# Altium footprint library Powers.PcbLib: 24 footprints (part 2 of 2)
Each footprint in its own frame and in the unit in brackets; x right, y up, seen from the top. Pads: shape width x height; smd on the part's side, far side on the other; paste and mask are expansions set on the pad; w line width, h text height; cw(c..) or ccw(c..) is an arc to the next point about the centre after c.
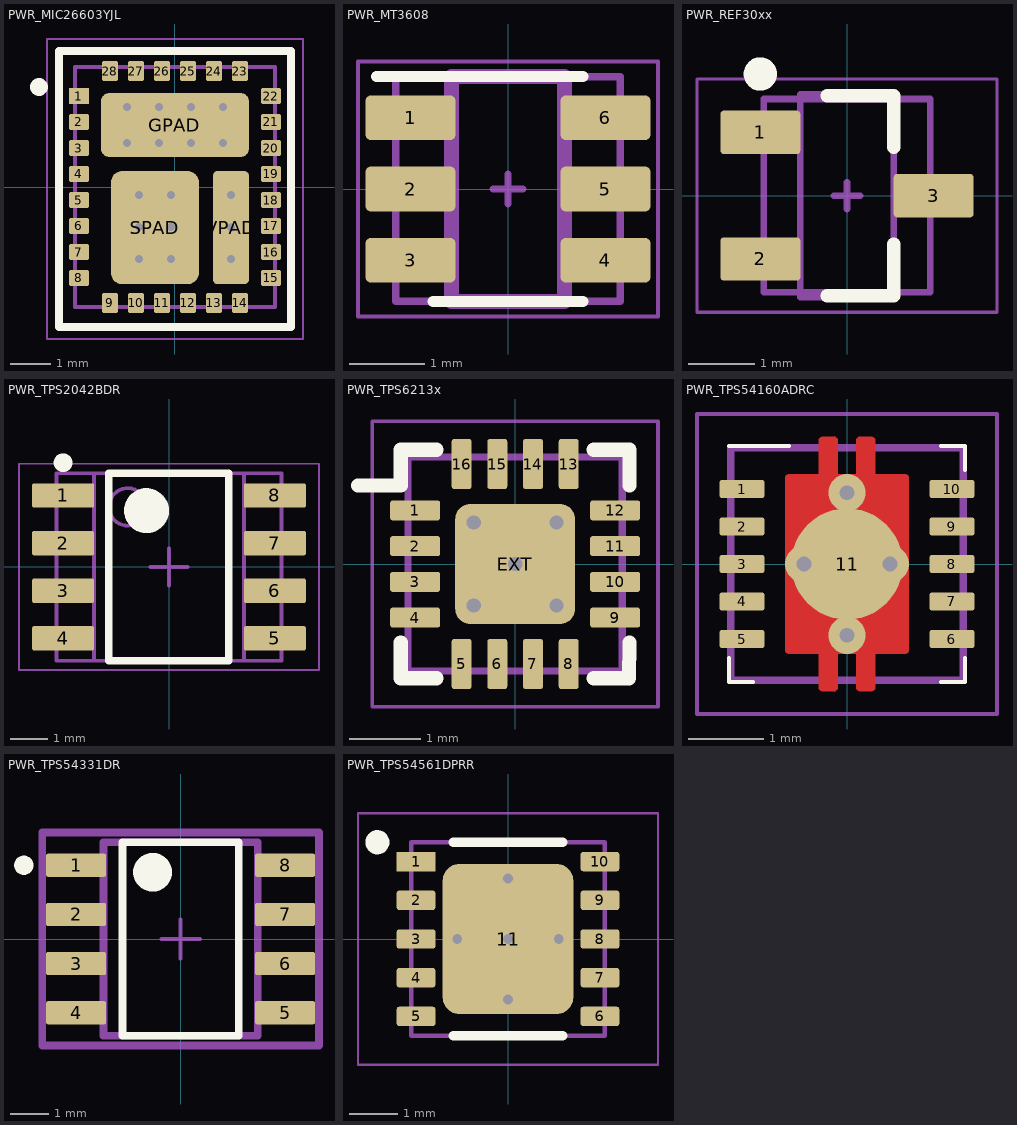
[diagram p1: the footprints below, top view; thin cyan lines are the x and y axes]

## PWR_MIC26603YJL [mm]
pads (31):
  rect 0.5x0.4 smd mask+0.07: 1(-2.4,2.275)
  rrect25% 0.5x0.4 smd mask+0.07: 2(-2.4,1.625) 3(-2.4,0.975) 4(-2.4,0.325) 5(-2.4,-0.325) 6(-2.4,-0.975) 7(-2.4,-1.625) 8(-2.4,-2.275) 15(2.4,-2.275) 16(2.4,-1.625) 17(2.4,-0.975) 18(2.4,-0.325) 19(2.4,0.325) 20(2.4,0.975) 21(2.4,1.625) 22(2.4,2.275)
  rrect25% 0.4x0.5 smd mask+0.07: 9(-1.625,-2.9) 10(-0.975,-2.9) 11(-0.325,-2.9) 12(0.325,-2.9) 13(0.975,-2.9) 14(1.625,-2.9) 23(1.625,2.9) 24(0.975,2.9) 25(0.325,2.9) 26(-0.325,2.9) 27(-0.975,2.9) 28(-1.625,2.9)
  rrect25% 3.7x1.6 smd mask+0.07: GPAD(0,1.55)
  rrect25% 2.2x2.83 smd mask+0.07: SPAD(-0.5,-1.015)
  rrect25% 0.9x2.83 smd mask+0.07: VPAD(1.4,-1.015)
via 1.4,-1.8 diameter 0.5 hole 0.2
via 1.4,-1.015 diameter 0.5 hole 0.2
via 1.4,-0.2 diameter 0.5 hole 0.2
via -0.1,-1 diameter 0.5 hole 0.2
via -0.9,-1 diameter 0.5 hole 0.2
via -0.1,-0.2 diameter 0.5 hole 0.2
via -0.9,-0.2 diameter 0.5 hole 0.2
via -0.9,-1.8 diameter 0.5 hole 0.2
via -0.1,-1.8 diameter 0.5 hole 0.2
via 0.4,2 diameter 0.5 hole 0.2
via 0.4,1.1 diameter 0.5 hole 0.2
via 1.2,1.1 diameter 0.5 hole 0.2
via 1.2,2 diameter 0.5 hole 0.2
via -0.4,2 diameter 0.5 hole 0.2
via -0.4,1.1 diameter 0.5 hole 0.2
via -1.2,1.1 diameter 0.5 hole 0.2
via -1.2,2 diameter 0.5 hole 0.2
Top Overlay:
  circle w0.25: c-3.4,2.5 r0.098
  lines w0.2: -2.9,-3.5 -2.9,3.4 2.9,3.4 2.9,-3.5 1.45,-3.5 -1.45,-3.5 -2.9,-3.5
Top Component Center:
  lines w0.1: -0.2,0 0,0 ; 0,-0.2 0,0 ; 0,0.2 0,0 ; 0.2,0 0,0
Top Assembly:
  lines w0.1: -2.5,-3 2.5,-3 2.5,3 -2.5,3 -2.5,-3
Top Designator:
  text ".Designator" at -7.816,-0.558 h1.52
Top Courtyard:
  lines w0.05: -3.2,-3.8 3.2,-3.8 3.2,3.7 -3.2,3.7 -3.2,-3.8
3D body "MIC26603YJL-TR.stp": height 1, standoff 0, extent -2.5,-3 2.5,3

## PWR_MT3608 [mm]
pads (6):
  rrect25% 1.2x0.6 smd paste+0 mask+0.051: 1(-1.3,0.95) 2(-1.3,0) 3(-1.3,-0.95) 4(1.3,-0.95) 5(1.3,0) 6(1.3,0.95)
Top Overlay:
  lines w0.152: -1.75,1.5 1,1.5 ; -1,-1.5 1,-1.5
Top Component Center:
  lines w0.1: -0.2,0 0,0 ; 0,-0.2 0,0 ; 0,0.2 0,0 ; 0.2,0 0,0
Top Assembly:
  lines w0.1: -1.5,-1.5 1.5,-1.5 1.5,1.5 -1.5,1.5 -1.5,-1.5
Top Designator:
  text ".Designator" at -7.618,-0.508 h1.52
Top 3D Body:
  lines w0.2: -0.75,-1.5 -0.75,1.5 0.75,1.5 0.75,-1.5 -0.75,-1.5
Top Courtyard:
  lines w0.05: -2,-1.7 -2,1.7 2,1.7 2,-1.7 -2,-1.7
3D body "TSOT23-6SOT23-6_AER.step": height 1.45, standoff 0, extent -1.499,-1.499 1.499,1.499

## PWR_REF30xx [mm] "SOT23, 3-Leads, Body 3.04x1.4mm, Pitch 0.95mm, IPC Low Density"
height 1.12
pads (3):
  rrect15% 1.2x0.65 smd: 1(-1.3,0.95) 2(-1.3,-0.95) 3(1.3,0)
Top Overlay:
  circle w0.25: c-1.3,1.825 r0.125
  lines w0.2: -0.3,-1.5 0.7,-1.5 0.7,-0.725 ; -0.3,1.5 0.7,1.5 0.7,0.725
Top Component Center:
  lines w0.1: -0.2,0 0,0 ; 0,-0.2 0,0 ; 0,0.2 0,0 ; 0.2,0 0,0
Top Assembly:
  lines w0.1: -1.25,-1.45 -1.25,1.45 1.25,1.45 1.25,-1.45 -1.25,-1.45
Top Designator:
  text ".Designator" at -7.618,-0.358 h1.52
Top 3D Body:
  lines w0.1: -0.7,-1.52 0.7,-1.52 0.7,1.52 -0.7,1.52 -0.7,-1.52
Top Courtyard:
  lines w0.05: -2.25,-1.75 2.25,-1.75 2.25,1.75 -2.25,1.75 -2.25,-1.75
3D body "DBZ0003AakaMF03A.stp": height 0.96, standoff -0.02, extent -1.257,-1.461 1.257,1.46

## PWR_TPS2042BDR [mm]
height 1.75
pads (8):
  rrect15% 1.65x0.65 smd: 1(-2.825,1.905) 2(-2.825,0.635) 3(-2.825,-0.635) 4(-2.825,-1.905) 5(2.825,-1.905) 6(2.825,-0.635) 7(2.825,0.635) 8(2.825,1.905)
Top Overlay:
  circle w0.25: c-2.825,2.78 r0.125
  circle w0.6: c-0.6,1.5 r0.3
  lines w0.2: -1.6,-2.5 -1.6,2.5 1.6,2.5 1.6,-2.5 -1.6,-2.5
Top Component Center:
  lines w0.1: -0.5,0 0.5,0 ; 0,-0.5 0,0.5
Top Assembly:
  lines w0.1: -3,-2.5 3,-2.5 3,2.5 -3,2.5 -3,-2.5
Top Designator:
  text ".Designator" at -7.618,-0.38 h1.52
Top 3D Body:
  circle w0.1: c-1.1,1.6 r0.5
  lines w0.1: -2,-2.5 -2,2.5 2,2.5 2,-2.5 -2,-2.5
Top Courtyard:
  lines w0.05: -4,-2.75 -4,2.75 4,2.75 4,-2.75 -4,-2.75
3D body "SOIC-8akaD0008AakaM08A.stp": height 1.63, standoff 0, extent -3,-2.45 3,2.45

## PWR_TPS6213x [mm]
pads (17):
  rrect25% 0.7x0.279 smd paste+0 mask+0.051: 1(-1.4,0.75) 2(-1.4,0.25) 3(-1.4,-0.25) 4(-1.4,-0.75) 9(1.4,-0.75) 10(1.4,-0.25) 11(1.4,0.25) 12(1.4,0.75)
  rrect25% 0.279x0.7 smd paste+0 mask+0.051: 5(-0.75,-1.4) 6(-0.25,-1.4) 7(0.25,-1.4) 8(0.75,-1.4) 13(0.75,1.4) 14(0.25,1.4) 15(-0.25,1.4) 16(-0.75,1.4)
  rrect25% 1.68x1.68 smd paste+0 mask+0.051: EXT(0,0)
via 0,0 diameter 0.35 hole 0.2
via 0.58,-0.58 diameter 0.35 hole 0.2
via 0.58,0.58 diameter 0.35 hole 0.2
via -0.58,0.58 diameter 0.35 hole 0.2
via -0.58,-0.58 diameter 0.35 hole 0.2
Top Overlay:
  lines w0.2: -2.2,1.1 -1.6,1.1 -1.6,1.6 -1.1,1.6 ; -1.6,-1.1 -1.6,-1.6 -1.1,-1.6 ; 1.1,-1.6 1.593,-1.601 1.6,-1.1 ; 1.1,1.6 1.6,1.6 1.6,1.1
Top Component Center:
  lines w0.1: -0.2,0 0,0 ; 0,0.2 0,0 ; 0.2,0 0,0 ; 0,0 0,-0.2 0,0
Top Assembly:
  lines w0.1: -1.5,-1.5 1.5,-1.5 1.5,1.5 -1.5,1.5 -1.5,-1.5
Top Designator:
  text ".Designator" at -7.755,-0.508 h1.52
Top Courtyard:
  lines w0.05: -2,-2 2,-2 2,2 -2,2 -2,-2
3D body "HVQFN-16_3x3.step": height 0.9, standoff 0, extent -1.501,-1.501 1.501,1.501

## PWR_TPS54160ADRC [mm]
pads (11):
  rrect25% 0.6x0.24 smd paste+0: 1(-1.4,1) 2(-1.4,0.5) 3(-1.4,0) 4(-1.4,-0.5) 5(-1.4,-1) 6(1.4,-1) 7(1.4,-0.5) 8(1.4,0) 9(1.4,0.5) 10(1.4,1)
  round 1.485 smd paste-1000 mask+0: 11(0,0)
via -0.575,0 diameter 0.5 hole 0.2
via 0.575,0 diameter 0.5 hole 0.2
via 0,0.95 diameter 0.5 hole 0.2
via 0,-0.95 diameter 0.5 hole 0.2
Top Layer:
  region: -0.825,-1.15 -0.825,-1.16 -0.817,-1.178 -0.803,-1.192 -0.785,-1.2 -0.775,-1.2 -0.375,-1.2 -0.375,-1.65 -0.375,-1.66 -0.367,-1.678 -0.353,-1.692 -0.335,-1.7 -0.325,-1.7 -0.175,-1.7 -0.165,-1.7 -0.147,-1.692 -0.133,-1.678 -0.125,-1.66 -0.125,-1.65 -0.125,-1.2 0.125,-1.2 0.125,-1.65 0.125,-1.66 0.133,-1.678 0.147,-1.692 0.165,-1.7 0.175,-1.7 0.325,-1.7 0.335,-1.7 0.353,-1.692 0.367,-1.678 0.375,-1.66 0.375,-1.65 0.375,-1.2 0.775,-1.2 0.785,-1.2 0.803,-1.192 0.817,-1.178 0.825,-1.16 0.825,-1.15 0.825,1.15 0.825,1.16 0.817,1.178 0.803,1.192 0.785,1.2 0.775,1.2 0.375,1.2 0.375,1.65 0.375,1.66 0.367,1.678 0.353,1.692 0.335,1.7 0.325,1.7 0.175,1.7 0.165,1.7 0.147,1.692 0.133,1.678 0.125,1.66 0.125,1.65 0.125,1.2 -0.125,1.2 -0.125,1.65 -0.125,1.66 -0.133,1.678 -0.147,1.692 -0.165,1.7 -0.175,1.7 -0.325,1.7 -0.335,1.7 -0.353,1.692 -0.367,1.678 -0.375,1.66 -0.375,1.65 -0.375,1.2 -0.775,1.2 -0.785,1.2 -0.803,1.192 -0.817,1.178 -0.825,1.16 -0.825,1.15
Top Overlay:
  lines w0.05: -1.575,-1.25 -1.575,-1.575 -1.25,-1.575 ; -1.575,1.575 -0.775,1.575 ; 1.25,-1.575 1.575,-1.575 1.575,-1.25 ; 1.25,1.575 1.575,1.575 1.575,1.25
Top Paste:
  drawing of 6 lines, arcs and shapes, not listed
Top Component Center:
  lines w0.1: -0.1,0 0,0 ; 0,-0.1 0,0 ; 0,0.1 0,0 ; 0.1,0 0,0
Top Assembly:
  lines w0.1: -1.55,-1.55 -1.55,1.55 1.55,1.55 1.55,-1.55 -1.55,-1.55
Top Designator:
  text ".Designator" at -7.618,-0.508 h1.52
Top Courtyard:
  lines w0.05: -2,-2 2,-2 2,2 -2,2 -2,-2
3D body "IC_Texas_Instruments_LM5165XDRCT_eec.STEP": height 0.25, standoff 0, extent -1.8,-1.8 1.8,1.8

## PWR_TPS54331DR [mm]
pads (8):
  rrect17% 1.55x0.6 smd paste+0 mask+0: 1(-2.7,1.905) 2(-2.7,0.635) 3(-2.7,-0.635) 4(-2.7,-1.905) 5(2.7,-1.905) 6(2.7,-0.635) 7(2.7,0.635) 8(2.7,1.905)
Top Overlay:
  circle w0.5: c-0.725,1.725 r0.25
  circle w0.25: c-4.05,1.905 r0.125
  lines w0.2: -1.5,-2.5 -1.5,2.5 1.5,2.5 1.5,-2.5 -1.5,-2.5
Top Component Center:
  lines w0.1: -0.5,0 0.5,0 ; 0,-0.5 0,0.5
Top Assembly:
  lines w0.2: -3.575,-2.75 -3.575,2.75 3.575,2.75 3.575,-2.75 -3.575,-2.75
Top Designator:
  text ".Designator" at -7.93,-0.508 h1.52
Top 3D Body:
  lines w0.2: -1.99,-2.5 -1.99,2.5 1.99,2.5 1.99,-2.5 -1.99,-2.5
Top Courtyard:
  lines w0.05: -3.575,-2.75 -3.575,2.75 3.575,2.75 3.575,-2.75 -3.575,-2.75
3D body "IC_Texas_Instruments_ISO7220ADR_eec.STEP": height 0.25, standoff 0, extent -3.575,-2.75 3.575,2.75

## PWR_TPS54561DPRR [mm]
pads (11):
  rect 0.8x0.4 smd paste+0 mask+0: 1(-1.9,1.6)
  rrect25% 0.8x0.4 smd paste+0 mask+0: 2(-1.9,0.8) 3(-1.9,0) 4(-1.9,-0.8) 5(-1.9,-1.6) 6(1.9,-1.6) 7(1.9,-0.8) 8(1.9,0) 9(1.9,0.8) 10(1.9,1.6)
  rrect25% 2.7x3.1 smd paste-1000 mask-2539.97: 11(0,0)
via 0,0 diameter 0.35 hole 0.2
via 1.05,0 diameter 0.35 hole 0.2
via -1.05,0 diameter 0.35 hole 0.2
via 0,1.25 diameter 0.35 hole 0.2
via 0,-1.25 diameter 0.35 hole 0.2
Top Overlay:
  circle w0.25: c-2.7,2 r0.125
  lines w0.2: -1.125,-2 1.125,-2 ; -1.125,2 1.125,2
Top Paste:
  rectangle: -0.82,-1.02 0.82,1.02
Top Component Center:
  lines w0.1: -0.2,0 0,0 ; 0,-0.2 0,0 ; 0,0.2 0,0 ; 0.2,0 0,0
Top Assembly:
  lines w0.1: -2,-2 -2,2 2,2 2,-2 -2,-2
Top Designator:
  text ".Designator" at -7.618,-0.508 h1.52
Top Courtyard:
  lines w0.05: -3.1,-2.6 3.1,-2.6 3.1,2.6 -3.1,2.6 -3.1,-2.6
3D body "IC_Texas_Instruments_TPS54561QDPRRQ1_eec.STEP": height 0.25, standoff 0, extent -2.956,-2.5 2.956,2.5